# EAGLE library part SPHINX-EVO (library inventronik)
Sphinx-Evo Inventronik GmbH, 2004 www.inventronik.de
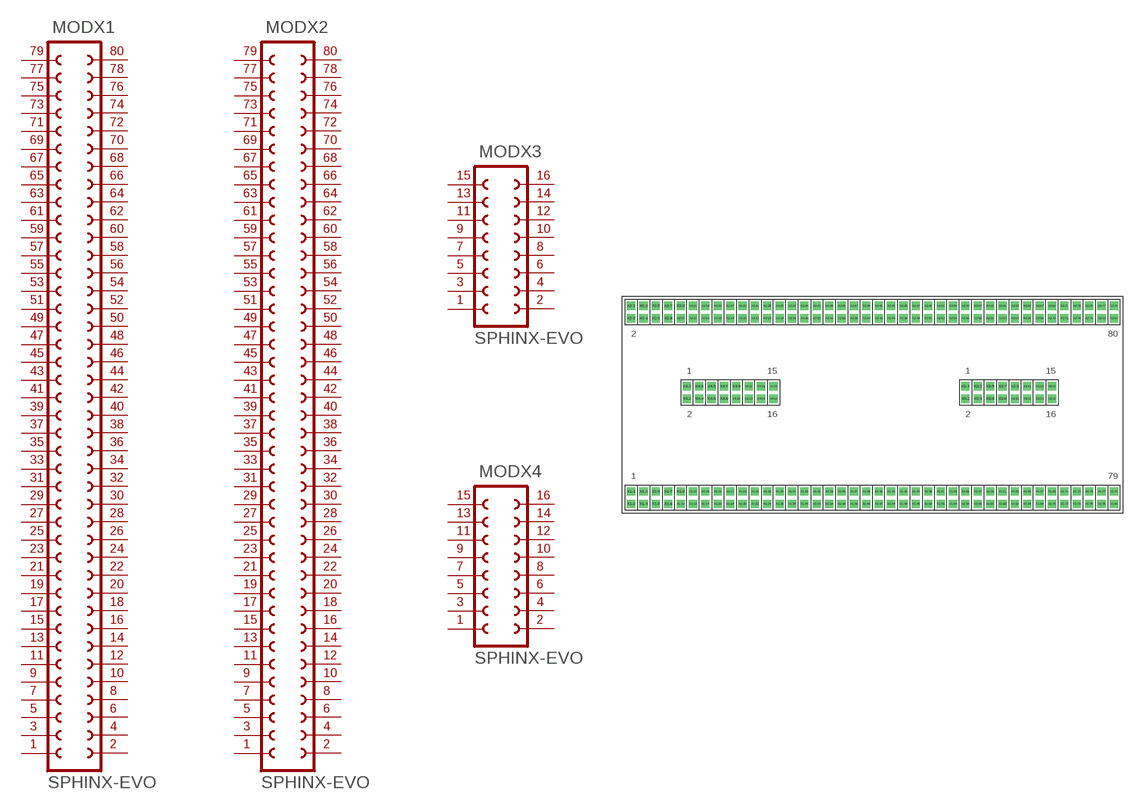
[diagram p1: symbol with the pads of SPHINX-EVO; footprint SPHINX-EVO]

Designator prefix MOD; gates X1=FE40-2 X2=FE40-2 X3=FE8-2 X4=FE8-2

## SPHINX-EVO  [SPHINX-EVO]
X1-1  X1:1  pas
X1-2  X1:2  pas
X1-3  X1:3  pas
X1-4  X1:4  pas
X1-5  X1:5  pas
X1-6  X1:6  pas
X1-7  X1:7  pas
X1-8  X1:8  pas
X1-9  X1:9  pas
X1-10  X1:10  pas
X1-11  X1:11  pas
X1-12  X1:12  pas
X1-13  X1:13  pas
X1-14  X1:14  pas
X1-15  X1:15  pas
X1-16  X1:16  pas
X1-17  X1:17  pas
X1-18  X1:18  pas
X1-19  X1:19  pas
X1-20  X1:20  pas
X1-21  X1:21  pas
X1-22  X1:22  pas
X1-23  X1:23  pas
X1-24  X1:24  pas
X1-25  X1:25  pas
X1-26  X1:26  pas
X1-27  X1:27  pas
X1-28  X1:28  pas
X1-29  X1:29  pas
X1-30  X1:30  pas
X1-31  X1:31  pas
X1-32  X1:32  pas
X1-33  X1:33  pas
X1-34  X1:34  pas
X1-35  X1:35  pas
X1-36  X1:36  pas
X1-37  X1:37  pas
X1-38  X1:38  pas
X1-39  X1:39  pas
X1-40  X1:40  pas
X1-41  X1:41  pas
X1-42  X1:42  pas
X1-43  X1:43  pas
X1-44  X1:44  pas
X1-45  X1:45  pas
X1-46  X1:46  pas
X1-47  X1:47  pas
X1-48  X1:48  pas
X1-49  X1:49  pas
X1-50  X1:50  pas
X1-51  X1:51  pas
X1-52  X1:52  pas
X1-53  X1:53  pas
X1-54  X1:54  pas
X1-55  X1:55  pas
X1-56  X1:56  pas
X1-57  X1:57  pas
X1-58  X1:58  pas
X1-59  X1:59  pas
X1-60  X1:60  pas
X1-61  X1:61  pas
X1-62  X1:62  pas
X1-63  X1:63  pas
X1-64  X1:64  pas
X1-65  X1:65  pas
X1-66  X1:66  pas
X1-67  X1:67  pas
X1-68  X1:68  pas
X1-69  X1:69  pas
X1-70  X1:70  pas
X1-71  X1:71  pas
X1-72  X1:72  pas
X1-73  X1:73  pas
X1-74  X1:74  pas
X1-75  X1:75  pas
X1-76  X1:76  pas
X1-77  X1:77  pas
X1-78  X1:78  pas
X1-79  X1:79  pas
X1-80  X1:80  pas
X2-1  X2:1  pas
X2-2  X2:2  pas
X2-3  X2:3  pas
X2-4  X2:4  pas
X2-5  X2:5  pas
X2-6  X2:6  pas
X2-7  X2:7  pas
X2-8  X2:8  pas
X2-9  X2:9  pas
X2-10  X2:10  pas
X2-11  X2:11  pas
X2-12  X2:12  pas
X2-13  X2:13  pas
X2-14  X2:14  pas
X2-15  X2:15  pas
X2-16  X2:16  pas
X2-17  X2:17  pas
X2-18  X2:18  pas
X2-19  X2:19  pas
X2-20  X2:20  pas
X2-21  X2:21  pas
X2-22  X2:22  pas
X2-23  X2:23  pas
X2-24  X2:24  pas
X2-25  X2:25  pas
X2-26  X2:26  pas
X2-27  X2:27  pas
X2-28  X2:28  pas
X2-29  X2:29  pas
X2-30  X2:30  pas
X2-31  X2:31  pas
X2-32  X2:32  pas
X2-33  X2:33  pas
X2-34  X2:34  pas
X2-35  X2:35  pas
X2-36  X2:36  pas
X2-37  X2:37  pas
X2-38  X2:38  pas
X2-39  X2:39  pas
X2-40  X2:40  pas
X2-41  X2:41  pas
X2-42  X2:42  pas
X2-43  X2:43  pas
X2-44  X2:44  pas
X2-45  X2:45  pas
X2-46  X2:46  pas
X2-47  X2:47  pas
X2-48  X2:48  pas
X2-49  X2:49  pas
X2-50  X2:50  pas
X2-51  X2:51  pas
X2-52  X2:52  pas
X2-53  X2:53  pas
X2-54  X2:54  pas
X2-55  X2:55  pas
X2-56  X2:56  pas
X2-57  X2:57  pas
X2-58  X2:58  pas
X2-59  X2:59  pas
X2-60  X2:60  pas
X2-61  X2:61  pas
X2-62  X2:62  pas
X2-63  X2:63  pas
X2-64  X2:64  pas
X2-65  X2:65  pas
X2-66  X2:66  pas
X2-67  X2:67  pas
X2-68  X2:68  pas
X2-69  X2:69  pas
X2-70  X2:70  pas
X2-71  X2:71  pas
X2-72  X2:72  pas
X2-73  X2:73  pas
X2-74  X2:74  pas
X2-75  X2:75  pas
X2-76  X2:76  pas
X2-77  X2:77  pas
X2-78  X2:78  pas
X2-79  X2:79  pas
X2-80  X2:80  pas
X3-1  X3:1  pas
X3-2  X3:2  pas
X3-3  X3:3  pas
X3-4  X3:4  pas
X3-5  X3:5  pas
X3-6  X3:6  pas
X3-7  X3:7  pas
X3-8  X3:8  pas
X3-9  X3:9  pas
X3-10  X3:10  pas
X3-11  X3:11  pas
X3-12  X3:12  pas
X3-13  X3:13  pas
X3-14  X3:14  pas
X3-15  X3:15  pas
X3-16  X3:16  pas
X4-1  X4:1  pas
X4-2  X4:2  pas
X4-3  X4:3  pas
X4-4  X4:4  pas
X4-5  X4:5  pas
X4-6  X4:6  pas
X4-7  X4:7  pas
X4-8  X4:8  pas
X4-9  X4:9  pas
X4-10  X4:10  pas
X4-11  X4:11  pas
X4-12  X4:12  pas
X4-13  X4:13  pas
X4-14  X4:14  pas
X4-15  X4:15  pas
X4-16  X4:16  pas

## Footprint SPHINX-EVO (pad centres in mm)
Sphinx-Evo Inventronik GmbH, 2004 www.inventronik.de
drill 0.813 square: X1-1 -38.1,-14.51; X1-2 -38.1,-16.51; X1-3 -36.1,-14.51; X1-4 -36.1,-16.51; X1-5 -34.1,-14.51; X1-6 -34.1,-16.51; X1-7 -32.1,-14.51; X1-8 -32.1,-16.51; X1-9 -30.1,-14.51; X1-10 -30.1,-16.51; X1-11 -28.1,-14.51; X1-12 -28.1,-16.51; X1-13 -26.1,-14.51; X1-14 -26.1,-16.51; X1-15 -24.1,-14.51; X1-16 -24.1,-16.51; X1-17 -22.1,-14.51; X1-18 -22.1,-16.51; X1-19 -20.1,-14.51; X1-20 -20.1,-16.51; X1-21 -18.1,-14.51; X1-22 -18.1,-16.51; X1-23 -16.1,-14.51; X1-24 -16.1,-16.51; X1-25 -14.1,-14.51; X1-26 -14.1,-16.51; X1-27 -12.1,-14.51; X1-28 -12.1,-16.51; X1-29 -10.1,-14.51; X1-30 -10.1,-16.51; X1-31 -8.1,-14.51; X1-32 -8.1,-16.51; X1-33 -6.1,-14.51; X1-34 -6.1,-16.51; X1-35 -4.1,-14.51; X1-36 -4.1,-16.51; X1-37 -2.1,-14.51; X1-38 -2.1,-16.51; X1-39 -0.1,-14.51; X1-40 -0.1,-16.51; X1-41 1.9,-14.51; X1-42 1.9,-16.51; X1-43 3.9,-14.51; X1-44 3.9,-16.51; X1-45 5.9,-14.51; X1-46 5.9,-16.51; X1-47 7.9,-14.51; X1-48 7.9,-16.51; X1-49 9.9,-14.51; X1-50 9.9,-16.51; X1-51 11.9,-14.51; X1-52 11.9,-16.51; X1-53 13.9,-14.51; X1-54 13.9,-16.51; X1-55 15.9,-14.51; X1-56 15.9,-16.51; X1-57 17.9,-14.51; X1-58 17.9,-16.51; X1-59 19.9,-14.51; X1-60 19.9,-16.51; X1-61 21.9,-14.51; X1-62 21.9,-16.51; X1-63 23.9,-14.51; X1-64 23.9,-16.51; X1-65 25.9,-14.51; X1-66 25.9,-16.51; X1-67 27.9,-14.51; X1-68 27.9,-16.51; X1-69 29.9,-14.51; X1-70 29.9,-16.51; X1-71 31.9,-14.51; X1-72 31.9,-16.51; X1-73 33.9,-14.51; X1-74 33.9,-16.51; X1-75 35.9,-14.51; X1-76 35.9,-16.51; X1-77 37.9,-14.51; X1-78 37.9,-16.51; X1-79 39.9,-14.51; X1-80 39.9,-16.51; X2-1 -38.1,15.49; X2-2 -38.1,13.49; X2-3 -36.1,15.49; X2-4 -36.1,13.49; X2-5 -34.1,15.49; X2-6 -34.1,13.49; X2-7 -32.1,15.49; X2-8 -32.1,13.49; X2-9 -30.1,15.49; X2-10 -30.1,13.49; X2-11 -28.1,15.49; X2-12 -28.1,13.49; X2-13 -26.1,15.49; X2-14 -26.1,13.49; X2-15 -24.1,15.49; X2-16 -24.1,13.49; X2-17 -22.1,15.49; X2-18 -22.1,13.49; X2-19 -20.1,15.49; X2-20 -20.1,13.49; X2-21 -18.1,15.49; X2-22 -18.1,13.49; X2-23 -16.1,15.49; X2-24 -16.1,13.49; X2-25 -14.1,15.49; X2-26 -14.1,13.49; X2-27 -12.1,15.49; X2-28 -12.1,13.49; X2-29 -10.1,15.49; X2-30 -10.1,13.49; X2-31 -8.1,15.49; X2-32 -8.1,13.49; X2-33 -6.1,15.49; X2-34 -6.1,13.49; X2-35 -4.1,15.49; X2-36 -4.1,13.49; X2-37 -2.1,15.49; X2-38 -2.1,13.49; X2-39 -0.1,15.49; X2-40 -0.1,13.49; X2-41 1.9,15.49; X2-42 1.9,13.49; X2-43 3.9,15.49; X2-44 3.9,13.49; X2-45 5.9,15.49; X2-46 5.9,13.49; X2-47 7.9,15.49; X2-48 7.9,13.49; X2-49 9.9,15.49; X2-50 9.9,13.49; X2-51 11.9,15.49; X2-52 11.9,13.49; X2-53 13.9,15.49; X2-54 13.9,13.49; X2-55 15.9,15.49; X2-56 15.9,13.49; X2-57 17.9,15.49; X2-58 17.9,13.49; X2-59 19.9,15.49; X2-60 19.9,13.49; X2-61 21.9,15.49; X2-62 21.9,13.49; X2-63 23.9,15.49; X2-64 23.9,13.49; X2-65 25.9,15.49; X2-66 25.9,13.49; X2-67 27.9,15.49; X2-68 27.9,13.49; X2-69 29.9,15.49; X2-70 29.9,13.49; X2-71 31.9,15.49; X2-72 31.9,13.49; X2-73 33.9,15.49; X2-74 33.9,13.49; X2-75 35.9,15.49; X2-76 35.9,13.49; X2-77 37.9,15.49; X2-78 37.9,13.49; X2-79 39.9,15.49; X2-80 39.9,13.49; X3-1 15.9,2.49; X3-2 15.9,0.49; X3-3 17.9,2.49; X3-4 17.9,0.49; X3-5 19.9,2.49; X3-6 19.9,0.49; X3-7 21.9,2.49; X3-8 21.9,0.49; X3-9 23.9,2.49; X3-10 23.9,0.49; X3-11 25.9,2.49; X3-12 25.9,0.49; X3-13 27.9,2.49; X3-14 27.9,0.49; X3-15 29.9,2.49; X3-16 29.9,0.49; X4-1 -29.1,2.49; X4-2 -29.1,0.49; X4-3 -27.1,2.49; X4-4 -27.1,0.49; X4-5 -25.1,2.49; X4-6 -25.1,0.49; X4-7 -23.1,2.49; X4-8 -23.1,0.49; X4-9 -21.1,2.49; X4-10 -21.1,0.49; X4-11 -19.1,2.49; X4-12 -19.1,0.49; X4-13 -17.1,2.49; X4-14 -17.1,0.49; X4-15 -15.1,2.49; X4-16 -15.1,0.49